# Altium footprint library STLINK.PcbLib: 31 footprints (part 1 of 2)
Each footprint in its own frame and in the unit in brackets; x right, y up, seen from the top. Pads: shape width x height; smd on the part's side, far side on the other; paste and mask are expansions set on the pad; w line width, h text height; cw(c..) or ccw(c..) is an arc to the next point about the centre after c.
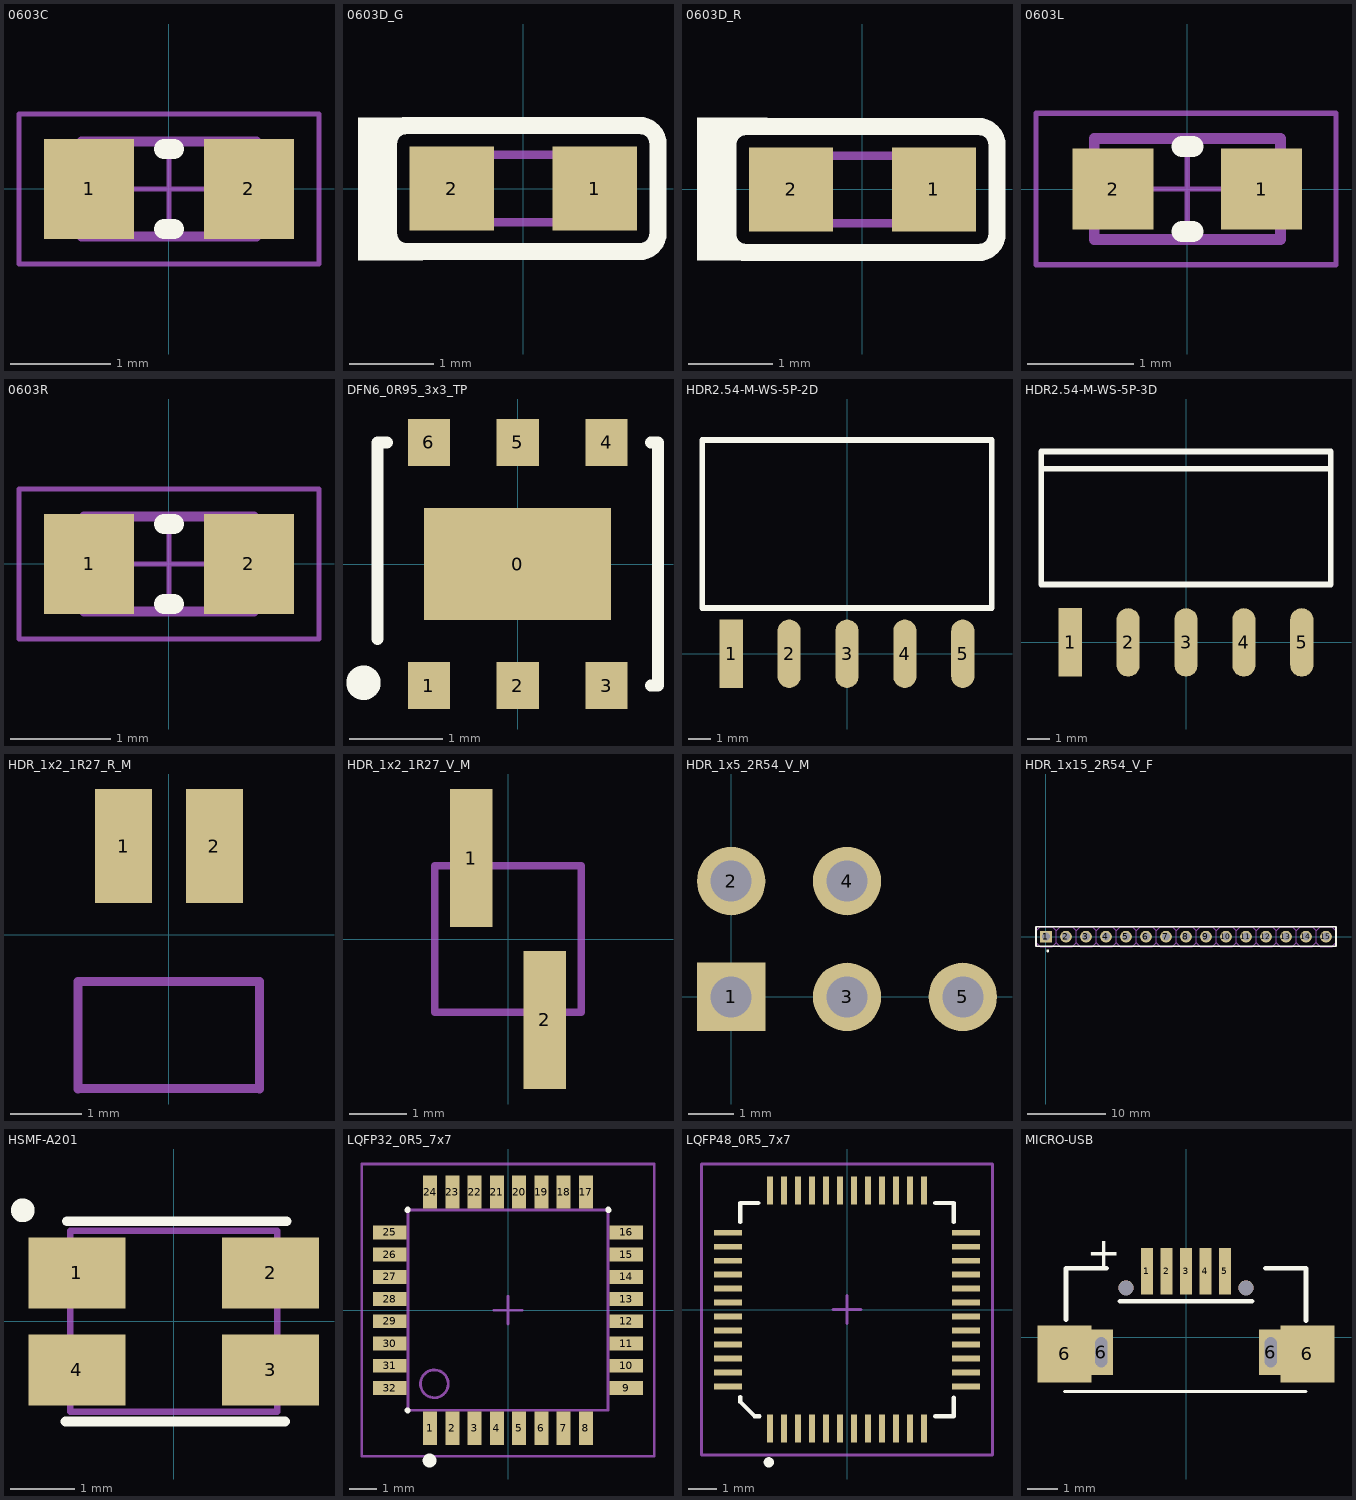
[diagram p0: the footprints below, top view; thin cyan lines are the x and y axes]

## 0603C [mm] "Chip Capacitor, Body 1.6x0.8mm, Height 1.0mm, IPC Medium Density"
height 1
pads (2):
  rect 0.9x1 smd: 1(-0.8,0) 2(0.8,0)
Top Overlay:
  lines w0.2: -0.05,-0.4 0.05,-0.4 ; -0.05,0.4 0.05,0.4
Mechanical 13:
  lines w0.1: -0.875,-0.475 0.875,-0.475 0.875,0.475 -0.875,0.475 -0.875,-0.475
Mechanical 15:
  lines w0.05: -0.475,0 0.475,0 ; 0,-0.475 0,0.475 ; -1.5,-0.75 1.5,-0.75 1.5,0.75 -1.5,0.75 -1.5,-0.75
3D body: height 1, standoff 0, extent 0.525,-0.475 0.875,0.475
3D body: height 1, standoff 0, extent -0.875,-0.475 -0.525,0.475
3D body: height 1, standoff 0, extent -0.525,-0.475 0.525,0.475

## 0603D_G [mm] "LED, SMT, Body 1.6 x 0.8 mm, 0.25mm Thickness"
height 0.25
pads (2):
  rect 1x1 smd paste+0 mask+0: 1(0.85,0) 2(-0.85,0)
Top Overlay:
  rectangle: -1.774,0.66 -1.124,0.846
  rectangle: -1.965,-0.856 -1.507,0.846
  rectangle: -1.774,-0.856 -1.19,-0.691
  lines w0.203: -1.602,-0.533 ccw(c-1.386,-0.533) -1.386,-0.749 1.386,-0.749 ccw(c1.386,-0.533) 1.602,-0.533 1.602,0.533 ccw(c1.386,0.533) 1.386,0.749 -1.386,0.749 ccw(c-1.386,0.533) -1.602,0.533 -1.602,-0.533
Mechanical 7:
  lines w0.1: -0.8,-0.4 -0.8,0.4 0.8,0.4 0.8,-0.4 -0.8,-0.4
3D body: height 0.1, standoff 0, extent -0.8,-0.4 0.8,0.4
3D body: height 0.2, standoff 0.15, extent -0.254,-0.254 0.254,0.254
3D body: height 0.25, standoff 0.1, extent -0.6,-0.4 0.6,0.4

## 0603D_R [mm] "LED, SMT, Body 1.6 x 0.8 mm, 0.25mm Thickness"
height 0.25
pads (2):
  rect 1x1 smd paste+0 mask+0: 1(0.85,0) 2(-0.85,0)
Top Overlay:
  rectangle: -1.779,-0.845 -1.195,-0.68
  rectangle: -1.969,-0.845 -1.512,0.857
  rectangle: -1.779,0.671 -1.129,0.857
  lines w0.203: -1.602,-0.533 ccw(c-1.386,-0.533) -1.386,-0.749 1.386,-0.749 ccw(c1.386,-0.533) 1.602,-0.533 1.602,0.533 ccw(c1.386,0.533) 1.386,0.749 -1.386,0.749 ccw(c-1.386,0.533) -1.602,0.533 -1.602,-0.533
Mechanical 7:
  lines w0.1: -0.8,-0.4 0.8,-0.4 0.8,0.4 -0.8,0.4 -0.8,-0.4
3D body: height 0.25, standoff 0.1, extent -0.6,-0.4 0.6,0.4
3D body: height 0.2, standoff 0.15, extent -0.254,-0.254 0.254,0.254
3D body: height 0.1, standoff 0, extent -0.8,-0.4 0.8,0.4

## 0603L [mil] "Bead 0603L"
pads (2):
  rect 30x30 smd: 1(27.5,0) 2(-27.5,0)
Top Overlay:
  lines w7.87: -1.97,-15.74 1.97,-15.74 -1.97,-15.75 ; -1.97,15.75 1.97,15.75 -1.97,15.75
Mechanical 13:
  lines w3.94: -34.45,-18.7 -34.45,18.7 34.45,18.7 34.45,-18.7 -34.45,-18.7
Mechanical 15:
  lines w1.97: -18.7,0 18.7,0 ; 0,-18.7 0,18.7 ; -56,-28 55,-28 55,28 -56,28 -56,-28
3D body: height 23.62, standoff 0, extent -20.67,-18.7 20.67,18.7
3D body: height 23.62, standoff 0, extent -34.45,-18.7 -20.67,18.7
3D body: height 23.62, standoff 0, extent 20.67,-18.7 34.45,18.7

## 0603R [mm] "Chip Resistor, Body 1.6x0.8mm, IPC Medium Density"
height 0.6
pads (2):
  rect 0.9x1 smd: 1(-0.8,0) 2(0.8,0)
Top Overlay:
  lines w0.2: -0.05,-0.4 0.05,-0.4 ; -0.05,0.4 0.05,0.4
Mechanical 13:
  lines w0.1: -0.85,-0.475 0.85,-0.475 0.85,0.475 -0.85,0.475 -0.85,-0.475
Mechanical 15:
  lines w0.05: -0.475,0 0.475,0 ; 0,-0.475 0,0.475 ; -1.5,-0.75 1.5,-0.75 1.5,0.75 -1.5,0.75 -1.5,-0.75
3D body: height 0.6, standoff 0, extent -0.849,-0.474 -0.58,0.475
3D body: height 0.6, standoff 0, extent -0.58,-0.474 0.581,0.475
3D body: height 0.6, standoff 0, extent 0.581,-0.474 0.85,0.475

## DFN6_0R95_3x3_TP [mm] "500 mA low quiescent current and low noise voltage regulator"
height 1
pads (7):
  rect 2x1.2 smd: 0(0,0)
  rect 0.45x0.5 smd: 1(-0.95,-1.3) 2(0,-1.3) 3(0.95,-1.3) 4(0.95,1.3) 5(0,1.3) 6(-0.95,1.3)
Top Overlay:
  circle w0.25: c-1.649,-1.27 r0.059
  lines w0.127: -1.5,-0.8 -1.5,1.3 -1.397,1.3 ; 1.422,-1.3 1.5,-1.3 1.5,1.3 1.422,1.3
3D body: height 1, standoff 0.05, extent -1.5,-1.5 1.5,1.5

## HDR2.54-M-WS-5P-2D [mm] "5P卧式贴片排母2.54"
pads (5):
  rect 1.02x3 smd: 1(-5.08,0)
  oval 1.02x3 smd: 2(-2.54,0) 3(0,0) 4(2.54,0) 5(5.08,0)
Top Overlay:
  lines w0.254: -6.35,2.007 -6.35,7.62 -6.35,7.976 -6.35,9.373 6.35,9.373 6.35,7.62 6.35,2.007 -6.35,2.007

## HDR2.54-M-WS-5P-3D [mm] "5P卧式贴片排母2.54"
pads (5):
  rect 1.02x3 smd: 1(-5.08,0)
  oval 1.02x3 smd: 2(-2.54,0) 3(0,0) 4(2.54,0) 5(5.08,0)
Top Overlay:
  lines w0.254: -6.35,7.62 6.35,7.62 ; -6.35,7.62 -6.35,2.54 -3.81,2.54 -1.27,2.54 1.27,2.54 3.81,2.54 6.35,2.54 6.35,7.62 ; -6.35,7.62 -6.35,7.976 -6.35,8.382 6.35,8.382 6.35,7.62
3D body: height 0.25, standoff 0, extent -3.81,-0.43 -1.27,8.382
3D body: height 0.25, standoff 0, extent -6.35,-0.43 -3.81,8.382
3D body: height 0.25, standoff 0, extent 3.81,-0.43 6.35,8.382
3D body: height 0.25, standoff 0, extent -1.27,-0.43 1.27,8.382
3D body: height 0.25, standoff 0, extent 1.27,-0.43 3.81,8.382

## HDR_1x2_1R27_R_M [mm] "Two pins header ,1.27mm pitch, DIP"
height 2.54
pads (2):
  rect 0.8x1.6 smd: 1(-0.635,1.245) 2(0.64,1.245)
Mechanical 13:
  lines w0.127: -1.27,-2.159 -1.27,-0.65 1.27,-0.65 1.27,-2.159 ; -1.27,-2.15 1.27,-2.15
3D body: height 1.27, standoff 0, extent 0.44,-0.2 0.84,0.2
3D body: height 1.27, standoff 0, extent -0.84,-0.2 -0.44,0.2
3D body: height 1.47, standoff 1.07, extent -0.84,-4.724 -0.432,0.2
3D body: height 2.54, standoff 0, extent -1.27,-2.134 1.27,-0.65
3D body: height 1.47, standoff 1.07, extent 0.432,-4.724 0.838,0.2
3D body: height 0.4, standoff 0, extent -0.84,0.181 -0.432,1.422
3D body: height 0.4, standoff 0, extent 0.435,0.181 0.843,1.422

## HDR_1x2_1R27_V_M [mm] "Two pins header ,1.27mm pitch, SMD"
height 6
pads (2):
  rect 0.74x2.4 smd: 1(-0.635,1.405) 2(0.635,-1.405)
Mechanical 13:
  lines w0.127: -1.27,-1.27 1.27,-1.27 1.27,1.27 -1.27,1.27 -1.27,-1.27
3D body: height 5.54, standoff -0.66, extent 0.38,-0.25 0.88,0.25
3D body: height 2.54, standoff 0, extent -1.27,-1.27 1.27,1.27
3D body: height 5.54, standoff -0.66, extent -0.89,-0.25 -0.39,0.25

## HDR_1x5_2R54_V_M [mm] "Header IDC, 2 x 4 Pin Vertical 2.54mm Pitch (Non-Boxed, Male)"
pads (5):
  rect 1.5x1.5 hole 0.9: 1(0,0)
  round 1.5 hole 0.9: 2(0,2.54) 3(2.54,0) 4(2.54,2.54) 5(5.08,0)

## HDR_1x15_2R54_V_F [mm] "Male Header, Pitch 2.54mm, 15x1 Position, Mated Height 6mm, Tail Length 3mm"
height 6
pads (15):
  rect 1.5x1.5 hole 1.02: 1(0,0)
  round 1.5 hole 1.02: 2(2.54,0) 3(5.08,0) 4(7.62,0) 5(10.16,0) 6(12.7,0) 7(15.24,0) 8(17.78,0) 9(20.32,0) 10(22.86,0) 11(25.4,0) 12(27.94,0) 13(30.48,0) 14(33.02,0) 15(35.56,0)
Top Overlay:
  circle w0.25: c0.229,-1.796 r0.059
  lines w0.2: -1.27,-1.194 -1.27,1.27 36.83,1.27 36.83,-1.194 -1.27,-1.194
Mechanical 13:
  lines w0.025: 1.271,-0.762 1.779,-1.27 3.304,-1.27 3.811,-0.762 ; 1.272,-0.762 1.272,0.762 ; 1.271,-0.762 0.763,-1.27 -0.76,-1.27 -1.269,-0.762 -1.268,0.762 -0.76,1.27 0.764,1.27 1.271,0.762 ; 1.272,-0.762 1.272,0.762 ; 1.272,0.762 1.78,1.27 3.304,1.27 3.811,0.762 ; 3.811,-0.762 4.319,-1.27 5.844,-1.27 6.351,-0.762 ; 3.812,-0.762 3.812,0.762 ; 3.812,-0.762 3.812,0.762 ; 3.812,0.762 4.32,1.27 5.844,1.27 6.351,0.762 ; 6.351,-0.762 6.859,-1.27 8.384,-1.27 8.891,-0.762 ; 6.352,-0.762 6.352,0.762 ; 6.352,-0.762 6.352,0.762 ; 6.352,0.762 6.86,1.27 8.384,1.27 8.891,0.762 ; 8.891,-0.762 9.399,-1.27 10.924,-1.27 11.431,-0.762 ; 8.892,-0.762 8.892,0.762 ; 8.892,-0.762 8.892,0.762 ; 8.892,0.762 9.4,1.27 10.924,1.27 11.431,0.762 ; 11.431,-0.762 11.939,-1.27 13.464,-1.27 13.971,-0.762 ; 11.432,-0.762 11.432,0.762 ; 11.432,-0.762 11.432,0.762 ; 11.432,0.762 11.94,1.27 13.464,1.27 13.971,0.762 ; 13.971,-0.762 14.479,-1.27 16.004,-1.27 16.511,-0.762 ; 13.972,-0.762 13.972,0.762 ; 13.972,-0.762 13.972,0.762 ; 13.972,0.762 14.48,1.27 16.004,1.27 16.511,0.762 ; 16.511,-0.762 17.019,-1.27 18.544,-1.27 19.051,-0.762 ; 16.512,-0.762 16.512,0.762 ; 16.512,-0.762 16.512,0.762 ; 16.512,0.762 17.02,1.27 18.544,1.27 19.051,0.762 ; 19.051,-0.762 19.559,-1.27 21.084,-1.27 21.591,-0.762 ; 19.052,-0.762 19.052,0.762 ; 19.052,-0.762 19.052,0.762 ; 19.052,0.762 19.56,1.27 21.084,1.27 21.591,0.762 ; 21.591,-0.762 22.099,-1.27 23.624,-1.27 24.131,-0.762 ; 21.592,-0.762 21.592,0.762 ; 21.592,-0.762 21.592,0.762 ; 21.592,0.762 22.1,1.27 23.624,1.27 24.131,0.762 ; 24.131,-0.762 24.639,-1.27 26.164,-1.27 26.671,-0.762 ; 24.132,-0.762 24.132,0.762 ; 24.132,-0.762 24.132,0.762 ; 24.132,0.762 24.64,1.27 26.164,1.27 26.671,0.762 ; 26.671,-0.762 27.179,-1.27 28.704,-1.27 29.211,-0.762 ; 26.672,-0.762 26.672,0.762 ; 26.672,-0.762 26.672,0.762 ; 26.672,0.762 27.18,1.27 28.704,1.27 29.211,0.762 ; 29.211,-0.762 29.719,-1.27 31.244,-1.27 31.751,-0.762 ; 29.212,-0.762 29.212,0.762 ; 29.212,-0.762 29.212,0.762 ; 29.212,0.762 29.72,1.27 31.244,1.27 31.751,0.762 ; 31.751,-0.762 32.259,-1.27 33.784,-1.27 34.291,-0.762 ; 31.752,-0.762 31.752,0.762 ; 31.752,-0.762 31.752,0.762 ; 31.752,0.762 32.26,1.27 33.784,1.27 34.291,0.762 ; 34.291,-0.762 34.799,-1.27 36.324,-1.27 36.831,-0.762 36.832,0.762 36.323,1.27 34.8,1.27 34.292,0.762 ; 34.292,-0.762 34.292,0.762 ; 34.292,-0.762 34.292,0.762
3D body: height 12.7, standoff -2.54, extent 35.211,-0.349 35.909,0.349
3D body: height 2.54, standoff 0, extent 34.292,-1.27 36.832,1.27
3D body: height 12.7, standoff -2.54, extent 32.671,-0.349 33.369,0.349
3D body: height 2.54, standoff 0, extent 31.752,-1.27 34.292,1.27
3D body: height 12.7, standoff -2.54, extent 30.131,-0.349 30.829,0.349
3D body: height 2.54, standoff 0, extent 29.212,-1.27 31.752,1.27
3D body: height 12.7, standoff -2.54, extent 27.591,-0.349 28.289,0.349
3D body: height 2.54, standoff 0, extent 26.672,-1.27 29.212,1.27
3D body: height 12.7, standoff -2.54, extent 25.051,-0.349 25.749,0.349
3D body: height 2.54, standoff 0, extent 24.132,-1.27 26.672,1.27
3D body: height 12.7, standoff -2.54, extent 22.511,-0.349 23.209,0.349
3D body: height 2.54, standoff 0, extent 21.592,-1.27 24.132,1.27
3D body: height 12.7, standoff -2.54, extent 19.971,-0.349 20.669,0.349
3D body: height 2.54, standoff 0, extent 19.052,-1.27 21.592,1.27
3D body: height 12.7, standoff -2.54, extent 17.431,-0.349 18.129,0.349
3D body: height 2.54, standoff 0, extent 16.512,-1.27 19.052,1.27
3D body: height 12.7, standoff -2.54, extent 14.891,-0.349 15.589,0.349
3D body: height 2.54, standoff 0, extent 13.972,-1.27 16.512,1.27
3D body: height 12.7, standoff -2.54, extent 12.351,-0.349 13.049,0.349
3D body: height 2.54, standoff 0, extent 11.432,-1.27 13.972,1.27
3D body: height 12.7, standoff -2.54, extent 9.811,-0.349 10.509,0.349
3D body: height 2.54, standoff 0, extent 8.892,-1.27 11.432,1.27
3D body: height 12.7, standoff -2.54, extent 7.271,-0.349 7.969,0.349
3D body: height 2.54, standoff 0, extent 6.352,-1.27 8.892,1.27
3D body: height 12.7, standoff -2.54, extent 4.731,-0.349 5.429,0.349
3D body: height 2.54, standoff 0, extent 3.812,-1.27 6.352,1.27
3D body: height 12.7, standoff -2.54, extent 2.191,-0.349 2.889,0.349
3D body: height 2.54, standoff 0, extent 1.272,-1.27 3.812,1.27
3D body: height 12.7, standoff -2.54, extent -0.349,-0.349 0.349,0.349
3D body: height 2.54, standoff 0, extent -1.268,-1.27 1.272,1.27

## HSMF-A201 [mm] "LED"
height 1.2
pads (4):
  rect 1.5x1.1 smd: 1(-1.5,0.75) 2(1.5,0.75) 3(1.5,-0.75) 4(-1.5,-0.75)
Top Overlay:
  circle w0.25: c-2.337,1.719 r0.059
  lines w0.152: -1.676,-1.549 1.724,-1.549 ; -1.651,1.549 1.749,1.549
Mechanical 13:
  lines w0.1: -1.6,-1.4 1.6,-1.4 1.6,1.4 -1.6,1.4 -1.6,-1.4
3D body: height 1.2, standoff 0.1, extent -1.6,-1.4 1.6,1.4

## LQFP32_0R5_7x7 [mm] "LQFP32 Recommended ,32 Pin MCU Size,7x7mm, Pitch, 0.8mm"
height 1.6
pads (32):
  rect 0.5x1.2 smd: 1(-2.8,-4.25) 2(-2,-4.25) 3(-1.2,-4.25) 4(-0.4,-4.25) 5(0.4,-4.25) 6(1.2,-4.25) 7(2,-4.25) 8(2.8,-4.25) 17(2.8,4.25) 18(2,4.25) 19(1.2,4.25) 20(0.4,4.25) 21(-0.4,4.25) 22(-1.2,4.25) 23(-2,4.25) 24(-2.8,4.25)
  rect 1.2x0.5 smd: 9(4.25,-2.8) 10(4.25,-2) 11(4.25,-1.2) 12(4.25,-0.4) 13(4.25,0.4) 14(4.25,1.2) 15(4.25,2) 16(4.25,2.8) 25(-4.25,2.8) 26(-4.25,2) 27(-4.25,1.2) 28(-4.25,0.4) 29(-4.25,-0.4) 30(-4.25,-1.2) 31(-4.25,-2) 32(-4.25,-2.8)
Top Overlay:
  circle w0.25: c-2.819,-5.408 r0.125
  lines w0.2: -3.625,-3.6 -3.6,-3.6 -3.6,-3.625 ; -3.625,3.6 -3.6,3.6 -3.6,3.625 ; 3.6,3.625 3.6,3.6 3.625,3.6
Mechanical 13:
  circle w0.1: c-2.65,-2.65 r0.5
  lines w0.1: -3.6,-3.6 -3.6,3.6 3.6,3.6 3.6,-3.6 -3.6,-3.6
Mechanical 15:
  lines w0.1: -0.5,0 0.5,0 ; 0,-0.5 0,0.5 ; -5.258,-5.258 -5.258,5.258 5.258,5.258 5.258,-5.258 -5.258,-5.258
3D body: height 1.6, standoff 0.05, extent -3.6,-3.6 3.6,3.6

## LQFP48_0R5_7x7 [mm] "Low & medium-density value line, advanced ARM-based 32-bit MCU"
height 1.6
pads (48):
  rect 0.2x1 smd: 1(-2.75,-4.25) 2(-2.25,-4.25) 3(-1.75,-4.25) 4(-1.25,-4.25) 5(-0.75,-4.25) 6(-0.25,-4.25) 7(0.25,-4.25) 8(0.75,-4.25) 9(1.25,-4.25) 10(1.75,-4.25) 11(2.25,-4.25) 12(2.75,-4.25) 25(2.75,4.25) 26(2.25,4.25) 27(1.75,4.25) 28(1.25,4.25) 29(0.75,4.25) 30(0.25,4.25) 31(-0.25,4.25) 32(-0.75,4.25) 33(-1.25,4.25) 34(-1.75,4.25) 35(-2.25,4.25) 36(-2.75,4.25)
  rect 1x0.2 smd: 13(4.25,-2.75) 14(4.25,-2.25) 15(4.25,-1.75) 16(4.25,-1.25) 17(4.25,-0.75) 18(4.25,-0.25) 19(4.25,0.25) 20(4.25,0.75) 21(4.25,1.25) 22(4.25,1.75) 23(4.25,2.25) 24(4.25,2.75) 37(-4.25,2.75) 38(-4.25,2.25) 39(-4.25,1.75) 40(-4.25,1.25) 41(-4.25,0.75) 42(-4.25,0.25) 43(-4.25,-0.25) 44(-4.25,-0.75) 45(-4.25,-1.25) 46(-4.25,-1.75) 47(-4.25,-2.25) 48(-4.25,-2.75)
Top Overlay:
  circle w0.25: c-2.792,-5.461 r0.059
  lines w0.152: -3.81,-3.124 -3.81,-3.302 -3.302,-3.81 -3.124,-3.81 ; -3.81,3.124 -3.81,3.81 -3.175,3.81 ; 3.15,-3.81 3.81,-3.81 3.81,-3.15 ; 3.15,3.81 3.81,3.81 3.81,3.124
Mechanical 15:
  lines w0.1: -0.5,0 0.5,0 ; 0,-0.5 0,0.5 ; -5.2,-5.2 5.2,-5.2 5.2,5.2 -5.2,5.2 -5.2,-5.2
3D body: height 1.6, standoff 0.15, extent -3.5,-3.5 3.5,3.5

## MICRO-USB [mm]
pads (11):
  rect 0.4x1.55 smd: 1(-1.3,2.2) 2(-0.65,2.2) 3(0,2.2) 4(0.65,2.2) 5(1.3,2.2)
  rect 1.8x1.9 smd: 6(-4.05,-0.55) 6(4.05,-0.55)
  rect 0.8x1.5 hole 0.4 slot 1 at 90 deg: 6(-2.825,-0.5) 6(2.825,-0.5)
  round 0.5 hole 0.5 unplated: ""(-2,1.65) ""(2,1.65)
Top Overlay:
  lines w0.1: -4.05,-1.8 4,-1.8
  lines w0.152: -4,0.584 -4,2.3 -2.65,2.3 ; -2.2,1.2 2.2,1.2 ; 2.65,2.3 4,2.3 4,0.55
  text "+" at -3.3,2.35 h1
Keep-Out Layer:
  lines w0.127: -3.054,-1.043 -2.596,-1.043 -2.596,0.075 -3.054,0.075 -3.054,-1.043 ; 2.596,-1.043 3.054,-1.043 3.054,0.075 2.596,0.075 2.596,-1.043
Mechanical 1:
  lines w0.127: -3.054,-1.043 -3.054,0.075 -2.596,0.075 -2.596,-1.043 -3.054,-1.043 ; 2.596,-1.043 2.596,0.075 3.054,0.075 3.054,-1.043 2.596,-1.043